# Altium schematic symbol library RN4871-I_RM128.SchLib: 1 symbol
Pins are listed as number, name and electrical type; pins without a type are passive.

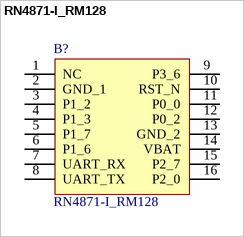
[diagram p0: symbol RN4871-I_RM128]

## RN4871-I_RM128
designator B?
Bluetooth / 802.15.1 Modules Bluetooth 4.2 BLE Module, ASCII Interface, Shielded, Antenna, 9x11.5mm, Industrial Temp; Manufacturer_Name: Microchip; Manufacturer_Part_Number: RN4871-I/RM128; RS Part Number: 1372666; RS Price/Stock: http://uk.rs-online.com/web/p/products/1372666; Arrow Part Number: RN4871-I/RM128; Arrow Price/Stock: https://www.arrow.com/en/products/rn4871-irm128/microchip-technology; Datasheet Link: http://ww1.microchip.com/downloads/en/DeviceDoc/50002489C.pdf
footprint RN4871
pins: 1 NC, 2 GND_1, 3 P1_2, 4 P1_3, 5 P1_7, 6 P1_6, 7 UART_RX, 8 UART_TX, 9 P3_6, 10 RST_N, 11 P0_0, 12 P0_2, 13 GND_2, 14 VBAT, 15 P2_7, 16 P2_0